# Altium footprint library PM3_Boscloner.PcbLib: 27 footprints (part 2 of 2)
Each footprint in its own frame and in the unit in brackets; x right, y up, seen from the top. Pads: shape width x height; smd on the part's side, far side on the other; paste and mask are expansions set on the pad; w line width, h text height; cw(c..) or ccw(c..) is an arc to the next point about the centre after c.
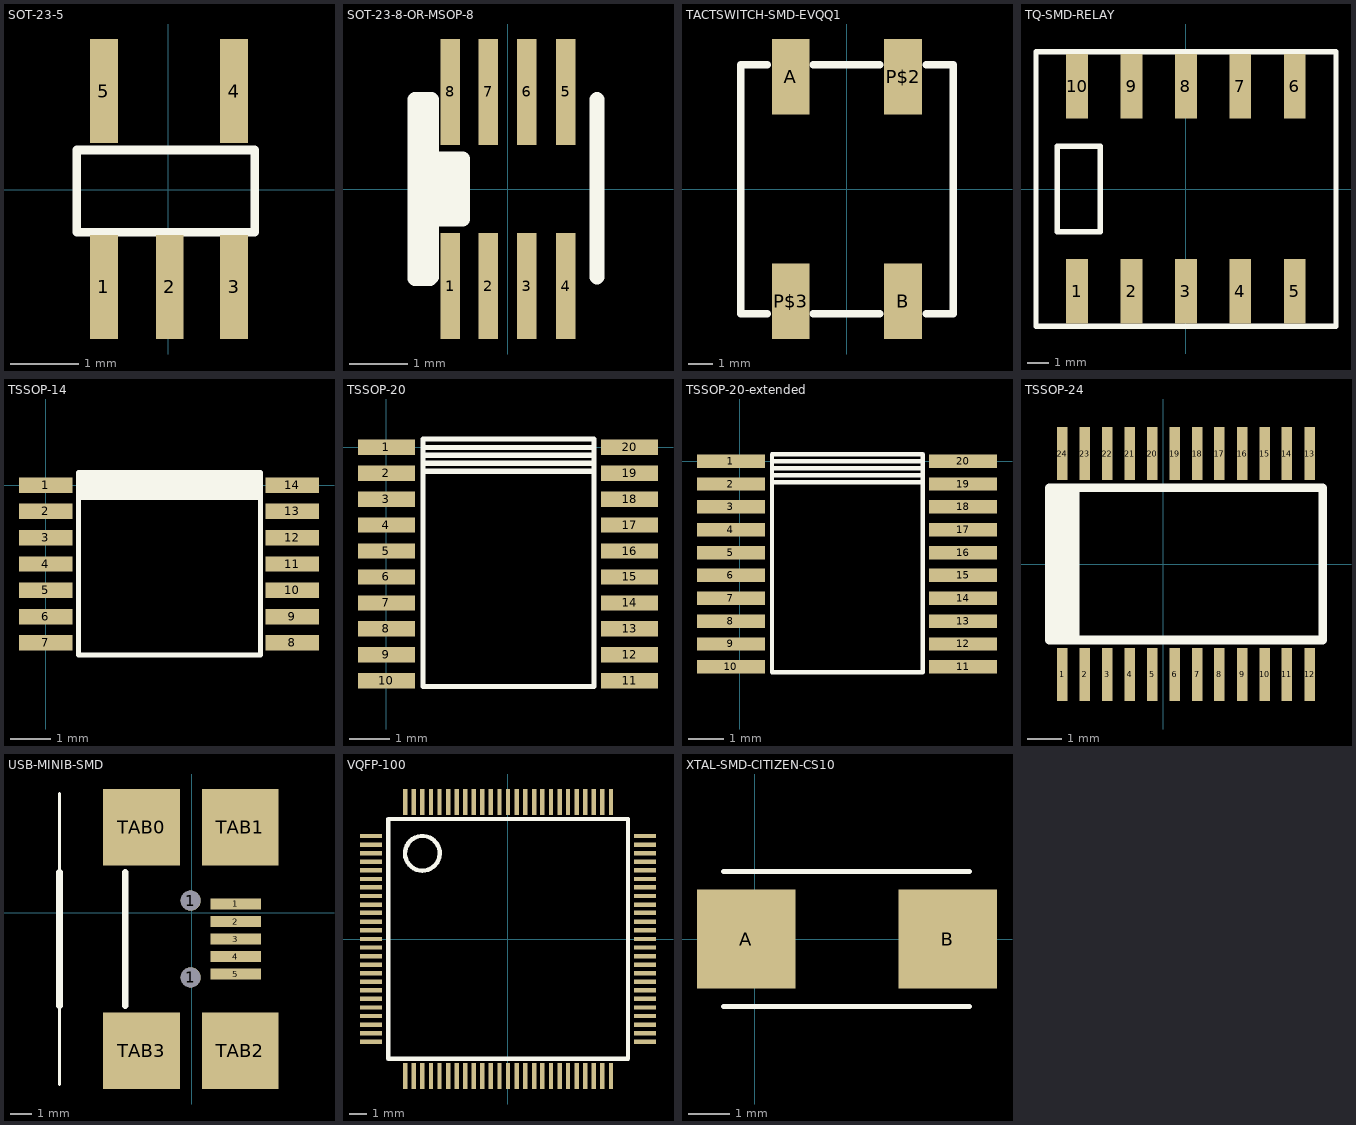
[diagram p1: the footprints below, top view; thin cyan lines are the x and y axes]

## SOT-23-5 [mil] "SOT-23-5"
pads (5):
  rect 16x60 smd: 1(-37,-56) 2(1,-56) 3(38,-56) 4(38,57) 5(-37,57)
Top Overlay:
  lines w5: -52.75,-24.5 50,-24.5 50,23 -52.75,23 -52.75,-24.5

## SOT-23-8-OR-MSOP-8 [mil] "SOT-23-8-OR-MSOP-8"
pads (8):
  rect 13x71 smd: 1(-38.39,-64.96) 2(-12.8,-64.96) 3(13,-64.96) 4(39,-64.96) 5(39,65) 6(13,65) 7(-12.8,65) 8(-38.39,65)
Top Overlay:
  lines w10: -61.06,-59.06 -61.06,60 ; -52,-60 -62,-60 -62,60 -52,60 ; -51.06,-59.06 -51.06,60 ; -50,20 -40,20 ; 60,-59.06 60,60 ; -40,-20 -40,20 ; -40,-20 -50,-20 -50,10 -40,10 -40,20 ; -40,-20 -30,-20 -30,20 -40,20

## TACTSWITCH-SMD-EVQQ1 [mil] "TACTSWITCH-SMD-EVQQ1"
pads (4):
  rect 60x119 smd: A(-88.58,178) B(89,-177.17) P$2(89,178) P$3(-88.58,-177.17)
Top Overlay:
  lines w12: -125.98,-196.85 -167.32,-196.85 -167.32,197 -125.98,197 ; -52.76,-196.85 52,-196.85 ; -52.76,197 52,197 ; 126,-196.85 168,-196.85 168,197 126,197

## TQ-SMD-RELAY [mil] "TQ-SMD-RELAY"
pads (10):
  rect 40x119 smd: 1(-200,-188.19) 2(-100,-188.19) 3(0,-188.19) 4(100,-188.19) 5(200,-188.19) 6(200,189) 7(100,189) 8(0,189) 9(-100,189) 10(-200,189)
Top Overlay:
  lines w10: -275.59,-251.97 276,-251.97 276,252 -275.59,252 -275.59,-251.97 ; -236.22,-78.74 -236.22,79 -157.48,79 -157.48,-78.74 -236.22,-78.74

## TSSOP-14 [mil] "TSSOP-14"
pads (14):
  rect 52x15 smd: 1(0,0) 2(0,-25.59) 3(0,-51.18) 4(0,-76.77) 5(0,-102.36) 6(0,-127.95) 7(0,-153.54) 8(240,-153.54) 9(240,-127.95) 10(240,-102.36) 11(240,-76.77) 12(240,-51.18) 13(240,-25.59) 14(240,0)
Top Overlay:
  lines w5: 36,-7.87 205,-7.87 ; 36,-3.94 205,-3.94 ; 36,4 205,4 ; 36,8 205,8 ; 32,-11.81 32,-165.35 209,-165.35 209,-11.81 ; 32,-11.81 32,0 ; 32,-11.81 209,-11.81 ; 32,0 32,12 209,12 209,0 ; 32,0 209,0 ; 209,-11.81 209,0

## TSSOP-20 [mil] "TSSOP-20"
pads (20):
  rect 56x15 smd: 1(0,0) 2(0,-25.59) 3(0,-51.18) 4(0,-76.77) 5(0,-102.36) 6(0,-127.95) 7(0,-153.54) 8(0,-179.13) 9(0,-204.72) 10(0,-230.31) 11(240,-230.31) 12(240,-204.72) 13(240,-179.13) 14(240,-153.54) 15(240,-127.95) 16(240,-102.36) 17(240,-76.77) 18(240,-51.18) 19(240,-25.59) 20(240,0)
Top Overlay:
  lines w5: 36,-23.62 36,-236.22 205,-236.22 205,-23.62 ; 36,-23.62 36,-15.75 ; 36,-23.62 205,-23.62 ; 36,-15.75 36,-7.87 ; 36,-15.75 205,-15.75 ; 36,-7.87 36,0 ; 36,-7.87 205,-7.87 ; 36,0 36,8 205,8 205,0 ; 36,0 205,0 ; 205,-23.62 205,-15.75 ; 205,-15.75 205,-7.87 ; 205,-7.87 205,0

## TSSOP-20-extended [mil] "TSSOP-20"
pads (20):
  rect 76x15 smd: 1(-10,0) 2(-10,-25.59) 3(-10,-51.18) 4(-10,-76.77) 5(-10,-102.36) 6(-10,-127.95) 7(-10,-153.54) 8(-10,-179.13) 9(-10,-204.72) 10(-10,-230.31) 11(250,-230.31) 12(250,-204.72) 13(250,-179.13) 14(250,-153.54) 15(250,-127.95) 16(250,-102.36) 17(250,-76.77) 18(250,-51.18) 19(250,-25.59) 20(250,0)
Top Overlay:
  lines w5: 36,-23.62 36,-236.22 205,-236.22 205,-23.62 ; 36,-23.62 36,-15.75 ; 36,-23.62 205,-23.62 ; 36,-15.75 36,-7.87 ; 36,-15.75 205,-15.75 ; 36,-7.87 36,0 ; 36,-7.87 205,-7.87 ; 36,0 36,8 205,8 205,0 ; 36,0 205,0 ; 205,-23.62 205,-15.75 ; 205,-15.75 205,-7.87 ; 205,-7.87 205,0

## TSSOP-24 [mil] "TSSOP-24"
pads (24):
  rect 12x60 smd: 1(-115.16,-125.98) 2(-89.57,-125.98) 3(-63.98,-125.98) 4(-38.39,-125.98) 5(-12.8,-125.98) 6(13,-125.98) 7(39,-125.98) 8(64,-125.98) 9(90,-125.98) 10(116,-125.98) 11(141,-125.98) 12(167,-125.98) 13(167,126) 14(141,126) 15(116,126) 16(90,126) 17(64,126) 18(39,126) 19(13,126) 20(-12.8,126) 21(-38.39,126) 22(-63.98,126) 23(-89.57,126) 24(-115.16,126)
Top Overlay:
  lines w10: -100.39,-86.61 -100.39,87 ; -120.08,-86.61 -129.92,-86.61 -129.92,87 -120.08,87 ; -120.08,-86.61 -110.24,-86.61 ; -120.08,-86.61 -120.08,87 ; -120.08,87 -110.24,87 ; -110.24,-86.61 182,-86.61 182,87 -100.39,87 ; -110.24,-86.61 -110.24,87 ; -110.24,87 -100.39,87

## USB-MINIB-SMD [mil] "USB-MINIB-SMD"
pads (11):
  round 36 hole 36: 1(-1.97,-116.14) 1(-1.97,22)
  rect 91x20 smd: 1(79,16) 2(79,-15.75) 3(79,-47.24) 4(79,-78.74) 5(79,-110.24)
  rect 138x138 smd: TAB0(-90.55,154) TAB1(87,154) TAB2(87,-248.03) TAB3(-90.55,-248.03)
Top Overlay:
  lines w5: -238.19,-309.06 -238.19,-167.32 -238.19,215
  lines w12: -238.19,-167.32 -238.19,73 ; -120.08,-167.32 -120.08,73

## VQFP-100 [mil] "VQFP-100"
pads (100):
  rect 50x10 smd: 1(-314.96,237) 2(-314.96,217) 3(-314.96,197) 4(-314.96,178) 5(-314.96,158) 6(-314.96,138) 7(-314.96,119) 8(-314.96,99) 9(-314.96,79) 10(-314.96,60) 11(-314.96,40) 12(-314.96,20) 13(-314.96,0) 14(-314.96,-19.68) 15(-314.96,-39.37) 16(-314.96,-59.06) 17(-314.96,-78.74) 18(-314.96,-98.43) 19(-314.96,-118.11) 20(-314.96,-137.8) 21(-314.96,-157.48) 22(-314.96,-177.17) 23(-314.96,-196.85) 24(-314.96,-216.54) 25(-314.96,-236.22) 51(315,-236.22) 52(315,-216.54) 53(315,-196.85) 54(315,-177.17) 55(315,-157.48) 56(315,-137.8) 57(315,-118.11) 58(315,-98.43) 59(315,-78.74) 60(315,-59.06) 61(315,-39.37) 62(315,-19.68) 63(315,0) 64(315,20) 65(315,40) 66(315,60) 67(315,79) 68(315,99) 69(315,119) 70(315,138) 71(315,158) 72(315,178) 73(315,197) 74(315,217) 75(315,237)
  rect 10x60 smd: 26(-236.22,-314.96) 27(-216.54,-314.96) 28(-196.85,-314.96) 29(-177.17,-314.96) 30(-157.48,-314.96) 31(-137.8,-314.96) 32(-118.11,-314.96) 33(-98.43,-314.96) 34(-78.74,-314.96) 35(-59.06,-314.96) 36(-39.37,-314.96) 37(-19.68,-314.96) 38(0,-314.96) 39(20,-314.96) 40(40,-314.96) 41(60,-314.96) 42(79,-314.96) 43(99,-314.96) 44(119,-314.96) 45(138,-314.96) 46(158,-314.96) 47(178,-314.96) 48(197,-314.96) 49(217,-314.96) 50(237,-314.96) 76(237,315) 77(217,315) 78(197,315) 79(178,315) 80(158,315) 81(138,315) 82(119,315) 83(99,315) 84(79,315) 85(60,315) 86(40,315) 87(20,315) 88(0,315) 89(-19.68,315) 90(-39.37,315) 91(-59.06,315) 92(-78.74,315) 93(-98.43,315) 94(-118.11,315) 95(-137.8,315) 96(-157.48,315) 97(-177.17,315) 98(-196.85,315) 99(-216.54,315) 100(-236.22,315)
Top Overlay:
  lines w10: -275.59,-275.59 276,-275.59 276,276 -275.59,276 -275.59,-275.59 ; -196.86,157 ccw(c-196.85,197) -196.86,157

## XTAL-SMD-CITIZEN-CS10 [mil] "XTAL-SMD-CITIZEN-CS10"
pads (2):
  rect 95x95 smd: A(-7.87,0) B(186,0)
Top Overlay:
  lines w5: -29.53,-64.96 207,-64.96 ; -29.53,65 207,65